# Altium schematic symbol library Diode.SchLib: 3 symbols
Pins are listed as number, name and electrical type; pins without a type are passive.

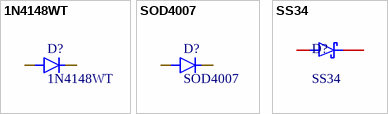
[diagram p0: symbols 1N4148WT to SS34]

## 1N4148WT
designator D?
75V Independent 1V@10mA 4ns 300mA SOD-523F Switching Diodes ROHS; Manufacturer: onsemi; Mfr. Part #: 1N4148WT; Package: SOD-523F; LCSC Part #: C232841; Link: https://www.lcsc.com/product-detail/C232841.html?s_z=n_1n4148
footprint 1N4148WT
pins: 1 C, 2 A

## SOD4007
designator D?
1A Independent 1kV 1.1V@1A SOD-123FL Diodes - General Purpose ROHS; Manufacturer: MDD(Microdiode Semiconductor); Mfr. Part #: SOD4007; Package: SOD-123FL; LCSC Part #: C18124; Link: https://www.lcsc.com/product-detail/C18124.html?s_z=n_SOD4007; Voltage - DC Reverse(Vr): 1kV; Current - Rectified: 1A
footprint SOD4007
pins: 1 C, 2 A

## SS34
designator D?
40V Independent 3A 550mV@3A SMA(DO-214AC) Schottky Diodes ROHS; Manufacturer: MDD(Microdiode Semiconductor); Mfr. Part #: SS34; LCSC Part #: C8678; Package: SMA(DO-214AC); Voltage - DC Reverse(Vr): 40V; Current - Rectified: 3A; Link: https://www.lcsc.com/product-detail/C8678.html?s_z=n_SS34
footprint SS34
pins: 1, 2